# EAGLE library part 691411710024 (library Wurth_Elektronik_Electromechanic_Terminal_Blocks_Connectors_rev16b)
WR-TBL Terminal block - serie 411 5,0mm - Spring clamp/Screw less - Horizontal entry - 24p Code:Con_TBL_Screwless_5.00_6914117100xxB Created 2014-12-22, aslant tao 2014 (C) Würth Elektronik
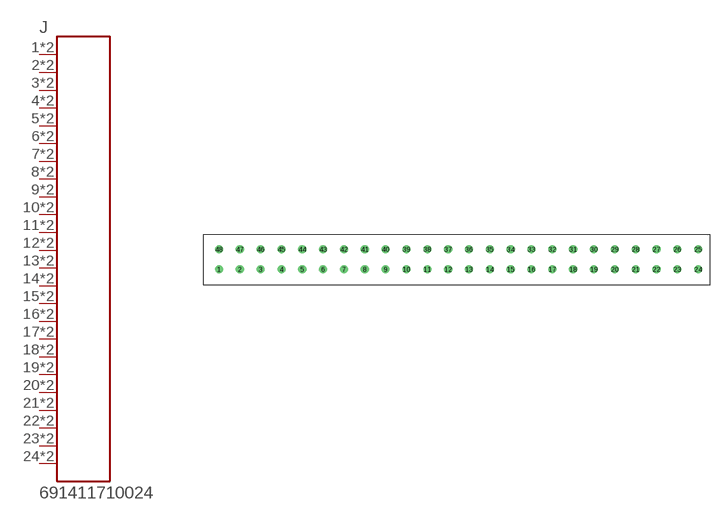
[diagram p288: symbol with the pads of 691411710024; footprint 691411710024]

Designator prefix J

## 691411710024  [691411710024]
1  1  pas
2  2  pas
3  3  pas
4  4  pas
5  5  pas
6  6  pas
7  7  pas
8  8  pas
9  9  pas
10  10  pas
11  11  pas
12  12  pas
13  13  pas
14  14  pas
15  15  pas
16  16  pas
17  17  pas
18  18  pas
19  19  pas
20  20  pas
21  21  pas
22  22  pas
23  23  pas
24  24  pas
25  24  pas
26  23  pas
27  22  pas
28  21  pas
29  20  pas
30  19  pas
31  18  pas
32  17  pas
33  16  pas
34  15  pas
35  14  pas
36  13  pas
37  12  pas
38  11  pas
39  10  pas
40  9  pas
41  8  pas
42  7  pas
43  6  pas
44  5  pas
45  4  pas
46  3  pas
47  2  pas
48  1  pas

## Footprint 691411710024 (pad centres in mm)
WR-TBL Serie 411 - 5.0mm Screwless Horizontal Entry - 2 mm2 Wires, 24 Pins
drill 1.3: 1 -15,0; 2 -10,0; 3 -5,0; 4 0,0; 5 5,0; 6 10,0; 7 15,0; 8 20,0; 9 25,0; 10 30,0; 11 35,0; 12 40,0; 13 45,0; 14 50,0; 15 55,0; 16 60,0; 17 65,0; 18 70,0; 19 75,0; 20 80,0; 21 85,0; 22 90,0; 23 95,0; 24 100,0; 25 100,4.8; 26 95,4.8; 27 90,4.8; 28 85,4.8; 29 80,4.8; 30 75,4.8; 31 70,4.8; 32 65,4.8; 33 60,4.8; 34 55,4.8; 35 50,4.8; 36 45,4.8; 37 40,4.8; 38 35,4.8; 39 30,4.8; 40 25,4.8; 41 20,4.8; 42 15,4.8; 43 10,4.8; 44 5,4.8; 45 0,4.8; 46 -5,4.8; 47 -10,4.8; 48 -15,4.8